# Altium schematic symbol library lib_all.SchLib: 4 symbols
Pins are listed as number, name and electrical type; pins without a type are passive.

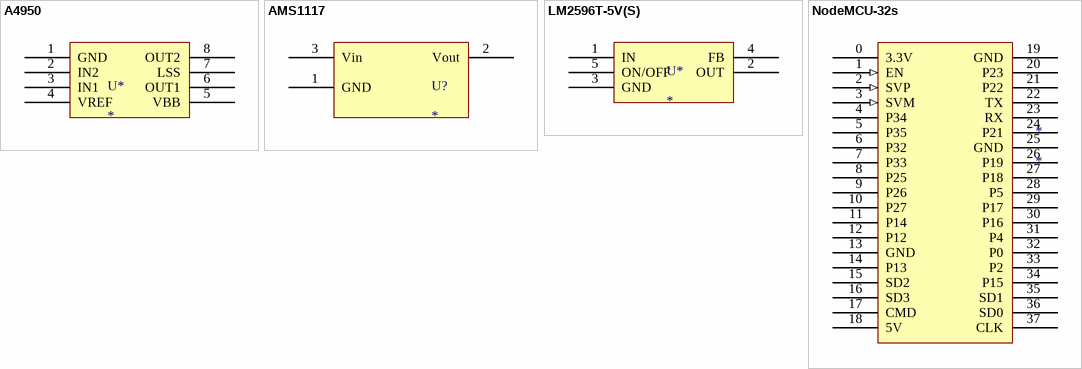
[diagram p0: symbols A4950 to NodeMCU-32s]

## A4950
designator U*
footprint SOP8
pins: 1 GND, 2 IN2, 3 IN1, 4 VREF, 5 VBB, 6 OUT1, 7 LSS, 8 OUT2

## AMS1117
designator U?
footprint DPAK230P700X180-4N (Footprint not found)
pins: 1 GND (power), 2 Vout, 3 Vin

## LM2596T-5V(S)
designator U*
footprint DPAK170P1534X450-6N (Footprint not found)
pins: 1 IN, 2 OUT, 3 GND, 4 FB, 5 ON/OFF

## NodeMCU-32s
designator *
footprint NodeMCU_ESP32 (Footprint not found)
pins: 0 3.3V (power), 1 EN (in), 2 SVP (in), 3 SVM (in), 4 P34, 5 P35, 6 P32, 7 P33, 8 P25, 9 P26, 10 P27, 11 P14, 12 P12, 13 GND (power), 14 P13, 15 SD2, 16 SD3, 17 CMD, 18 5V (power), 19 GND (power), 20 P23, 21 P22, 22 TX, 23 RX, 24 P21, 25 GND (power), 26 P19, 27 P18, 28 P5, 29 P17, 30 P16, 31 P4, 32 P0, 33 P2, 34 P15, 35 SD1, 36 SD0, 37 CLK